# Altium schematic symbol library Schottky Rectifiers.SchLib: 6 symbols
Pins are listed as number, name and electrical type; pins without a type are passive.

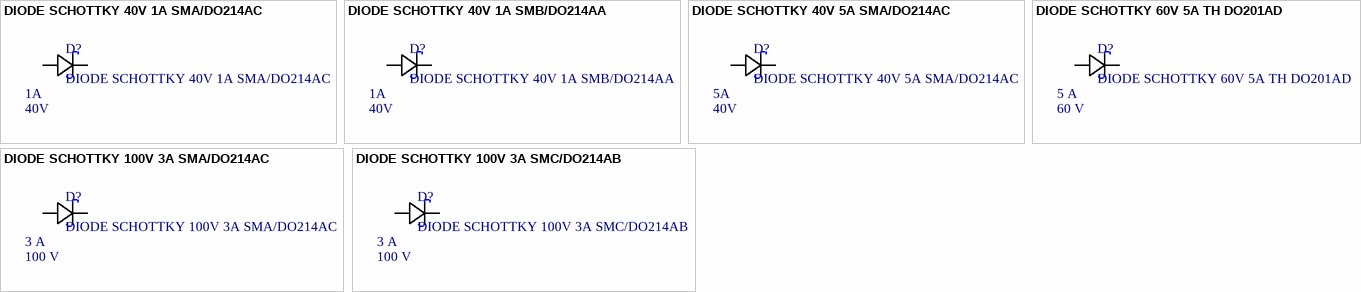
[diagram p0: symbols DIODE SCHOTTKY 40V 1A SMA/DO214AC to DIODE SCHOTTKY 100V 3A SMС/DO214AB]

## DIODE SCHOTTKY 40V 1A SMA/DO214AC
designator D?  Forward Current: 1A  Reverse Voltage: 40V
footprint LC-SMA(DO-214AC)_S5
pins: A, K

## DIODE SCHOTTKY 40V 1A SMB/DO214AA
designator D?  Forward Current: 1A  Reverse Voltage: 40V
footprint LC-SMB(DO-214AA)_S5
pins: A, K

## DIODE SCHOTTKY 40V 5A SMA/DO214AC
designator D?  Forward Current: 5A  Reverse Voltage: 40V
Supplier 1: Digi-Key; Supplier Part Number 1: 641-1707-1-ND
footprint LC-SMA(DO-214AC)_S5
pins: A, K

## DIODE SCHOTTKY 60V 5A TH DO201AD
designator D?  Forward Current: 5 A  Reverse Voltage: 60 V
footprint DO-201AD
pins: A, K

## DIODE SCHOTTKY 100V 3A SMA/DO214AC
designator D?  Forward Current: 3 A  Reverse Voltage: 100 V
footprint LC-SMA(DO-214AC)_S5
pins: A, K

## DIODE SCHOTTKY 100V 3A SMС/DO214AB
designator D?  Forward Current: 3 A  Reverse Voltage: 100 V
footprint LC-SMC(DO-214AB)_S5
pins: A, K